# Altium footprint library PCBLib.PcbLib: 26 footprints (part 1 of 2)
Each footprint in its own frame and in the unit in brackets; x right, y up, seen from the top. Pads: shape width x height; smd on the part's side, far side on the other; paste and mask are expansions set on the pad; w line width, h text height; cw(c..) or ccw(c..) is an arc to the next point about the centre after c.
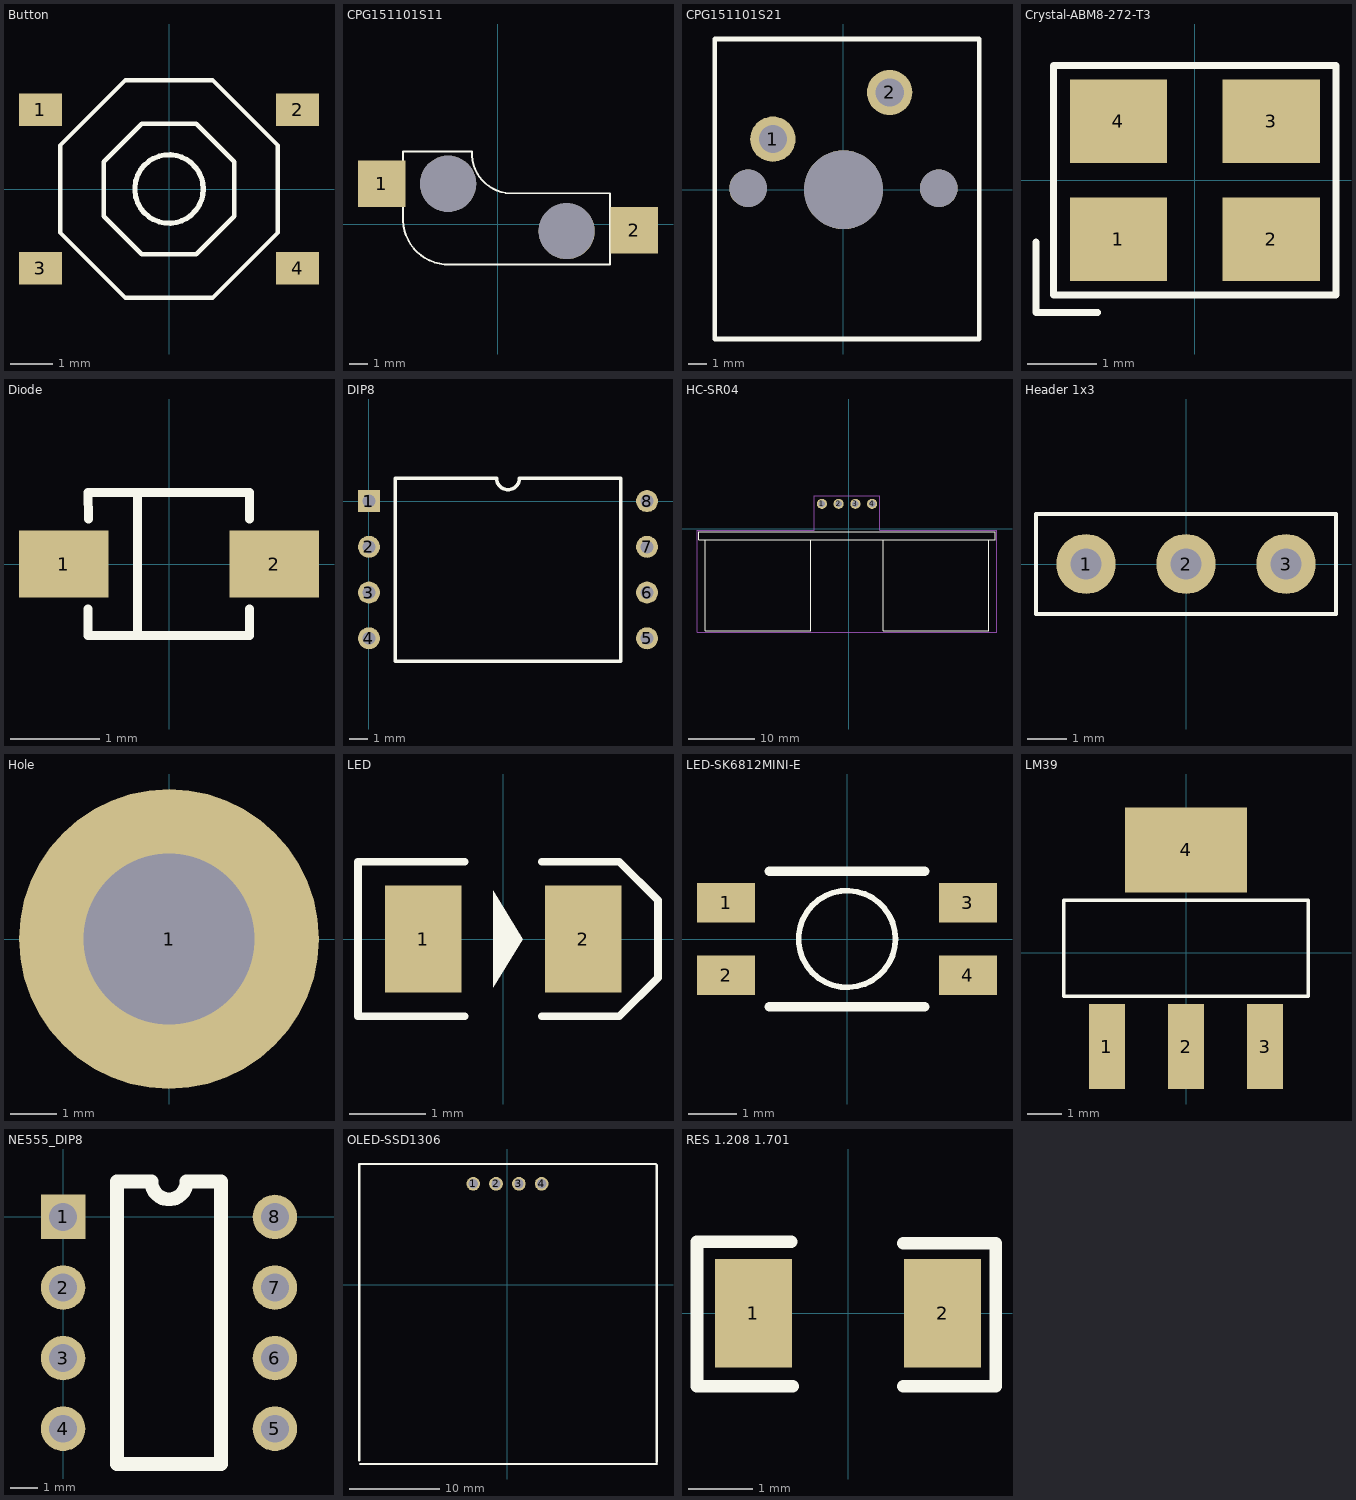
[diagram p0: the footprints below, top view; thin cyan lines are the x and y axes]

## Button [mm]
pads (4):
  rect 1x0.75 smd: 1(-3,1.85) 2(3,1.85) 3(-3,-1.85) 4(3,-1.85)
Top Overlay:
  circle w0.12: c0,0 r0.8
  lines w0.1: -2.54,-1.016 -2.54,1.016 ; -2.54,-1.016 -1.016,-2.54 1.016,-2.54 1.143,-2.413 2.54,-1.016 2.54,1.016 1.016,2.54 -1.016,2.54 ; -2.54,-1.016 -2.54,1.016 ; -2.54,1.016 -1.016,2.54 ; -2.54,1.016 -1.016,2.54 ; -1.524,-0.635 -1.524,0.635 -0.635,1.524 0.635,1.524 1.524,0.635 1.524,-0.635 0.635,-1.524 -0.635,-1.524 -1.524,-0.635

## CPG151101S11 [mm]
pads (4):
  rect 2.55x2.5 smd: 1(-6.217,2.159) 2(7.296,-0.33)
  round 3 hole 3: ""(-2.667,2.159) ""(3.683,-0.381)
Top Overlay:
  lines w0.1: -5.082,3.889 -5.076,0.174 ccw(c-2.657,0.257) -2.598,-2.162 6.008,-2.159 6.008,1.649 0.638,1.649 cw(c0.743,3.784) -1.392,3.889 -2.314,3.889 -4.159,3.889 -5.082,3.889
3D body "Kailh Hotswap MX v22.step": height 3.22, standoff 0, extent -6.371,-2.203 8.149,3.747

## CPG151101S21 [mm]
pads (5):
  round 2.413 hole 1.5: 1(-3.759,2.692) 2(2.464,5.182)
  round 2 hole 2: ""(-5.08,0.076) ""(5.08,0.076)
  round 4.2 hole 4.2: ""(0,0)
Top Overlay:
  lines w0.254: -6.858,-7.95 7.239,-7.95 7.239,8.026 -6.858,8.026 -6.858,-7.95
3D body "Kailh Polia.step": height 15.25, standoff -3.3, extent -7,-7.721 6.95,7.879

## Crystal-ABM8-272-T3 [mm]
pads (4):
  rect 1.4x1.2 smd: 1(-1.1,-0.85) 2(1.1,-0.85) 3(1.1,0.85) 4(-1.1,0.85)
Top Overlay:
  lines w0.1: -2.286,-0.889 -2.286,-1.905 -1.397,-1.905 ; -2.032,-1.651 -2.032,1.651 2.032,1.651 2.032,-1.651 -2.032,-1.651

## Diode [mm]
pads (2):
  rect 1x0.75 smd: 1(-1.173,0) 2(1.173,0)
Top Overlay:
  lines w0.1: -0.903,-0.8 -0.903,-0.5 ; -0.903,0.8 -0.9,0.5 ; -0.9,-0.8 0.9,-0.8 0.9,-0.5 ; -0.9,0.8 0.9,0.8 0.9,0.5 ; -0.35,-0.8 -0.35,0.8

## DIP8 [mm]
pads (8):
  rect 1.2x1.2 hole 0.7: 1(0,0)
  round 1.2 hole 0.7: 2(0,-2.5) 3(0,-5) 4(0,-7.5) 5(15.2,-7.5) 6(15.2,-5) 7(15.2,-2.5) 8(15.2,0)
Top Overlay:
  lines w0.2: 1.435,-8.75 13.765,-8.75 13.765,1.25 8.225,1.25 cw(c7.6,1.25) 6.975,1.25 1.435,1.25 1.435,-8.75

## HC-SR04 [mm]
pads (4):
  round 1.53 hole 1.02: 1(-4.06,3.767) 2(-1.52,3.767) 3(1.02,3.767) 4(3.56,3.767)
Top Overlay:
  lines w0.127: -21.75,-1.703 -5.75,-1.703 ; -21.75,-1.703 -22.75,-1.703 -22.75,-0.503 22.25,-0.503 22.25,-1.703 21.25,-1.703 ; -21.75,-1.703 -21.75,-15.503 -5.75,-15.503 -5.75,-1.703 ; -5.75,-1.703 5.25,-1.703 ; 5.25,-1.703 21.25,-1.703 ; 5.25,-1.703 5.25,-15.503 21.25,-15.503 21.25,-1.703
Mechanical 15:
  lines w0.05: -23,-15.733 -23,-0.233 -5.25,-0.233 -5.25,5.017 4.75,5.017 4.75,-0.233 22.5,-0.233 22.5,-15.733 -23,-15.733

## Header 1x3 [mm]
pads (3):
  oval 1.5x1.524 hole 0.8: 1(-2.54,0) 2(0,0) 3(2.54,0)
Top Overlay:
  lines w0.1: -3.81,-1.27 3.81,-1.27 3.81,1.27 -3.81,1.27 -3.81,-1.27

## Hole [mm]
pads (1):
  round 6.5 hole 3.7: 1(0,0)

## LED [mm]
pads (2):
  rect 1x1.4 smd: 1(-1.05,0) 2(1.05,0)
Top Overlay:
  region: -0.127,-0.635 -0.127,0.635 0.254,0
  lines w0.1: -0.508,-1.016 -1.905,-1.016 -1.905,1.016 -0.508,1.016 ; 0.508,-1.016 1.524,-1.016 2.032,-0.508 2.032,0.508 1.524,1.016 0.508,1.016

## LED-SK6812MINI-E [mm]
pads (4):
  rect 1.2x0.82 smd: 1(-2.5,0.75) 2(-2.5,-0.75) 3(2.5,0.75) 4(2.5,-0.75)
Top Overlay:
  circle w0.12: c0,0 r1
  lines w0.2: -1.6,-1.4 1.6,-1.4 ; -1.6,1.4 1.6,1.4

## LM39 [mm]
pads (4):
  rect 1.05x2.465 smd: 1(-2.3,-2.731) 2(0,-2.731) 3(2.3,-2.731)
  rect 3.54x2.465 smd: 4(0,2.985)
Top Overlay:
  lines w0.1: -3.556,-1.27 3.556,-1.27 3.556,1.524 -3.556,1.524 -3.556,-1.27

## NE555 [mm]

## NE555_DIP8 [mm]
pads (8):
  rect 1.6x1.6 hole 1: 1(0,0)
  round 1.6 hole 1: 2(0,-2.54) 3(0,-5.08) 4(0,-7.62) 5(7.62,-7.62) 6(7.62,-5.08) 7(7.62,-2.54) 8(7.62,0)
Top Overlay:
  lines w0.5: 1.935,-8.89 1.935,1.27 3.175,1.27 ccw(c3.81,1.27) 4.445,1.27 5.685,1.27 5.685,-8.89 1.935,-8.89

## OLED-SSD1306 [mm]
pads (4):
  round 1.53 hole 1.02: 1(-3.806,11.26) 2(-1.266,11.26) 3(1.274,11.26) 4(3.814,11.26)
Top Overlay:
  lines w0.254: -16.51,-19.558 -16.51,13.462 16.51,13.462 ; -16.383,-19.939 16.637,-19.939 ; 16.637,-19.685 16.637,13.335

## RES 1.208 1.701 [mm]
pads (2):
  rect 1.208x1.701 smd: 1(-1.479,0) 2(1.479,0)
Top Overlay:
  lines w0.2: -2.362,-1.143 -0.864,-1.143 ; -2.362,-1.092 -2.362,1.118 -0.889,1.118 ; 0.864,-1.143 2.311,-1.143 ; 0.864,1.092 2.311,1.092 2.311,-1.092